# Altium schematic symbol library TK13P25D_RQ.SchLib: 1 symbol
Pins are listed as number, name and electrical type; pins without a type are passive.

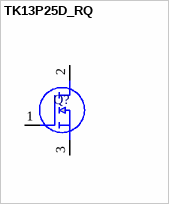
[diagram p0: symbol TK13P25D_RQ]

## TK13P25D_RQ
designator Q?
Pb-F POWER MOSFET TRANSISTOR DPAK-OS PD=96W F=1MHZ; Manufacturer_Name: Toshiba; Manufacturer_Part_Number: TK13P25D,RQ; Geometry.Height: 2.4mm; Mouser Part Number: 757-TK13P25DRQ; Mouser Price/Stock: https://www.mouser.co.uk/ProductDetail/Toshiba/TK13P25DRQ/?qs=B6kkDfuK7%2FAQ0ksZyBxdyg%3D%3D; Datasheet Link: https://toshiba.semicon-storage.com/ap-en/semiconductor/design-development/package/detail.DPAK.html
footprint TK13P25DRQ
pins: 1 G, 2 D, 3 S